# Altium integrated library ON Semi Signal Management Digital POTs.IntLib: 284 symbols (part 4 of 11)
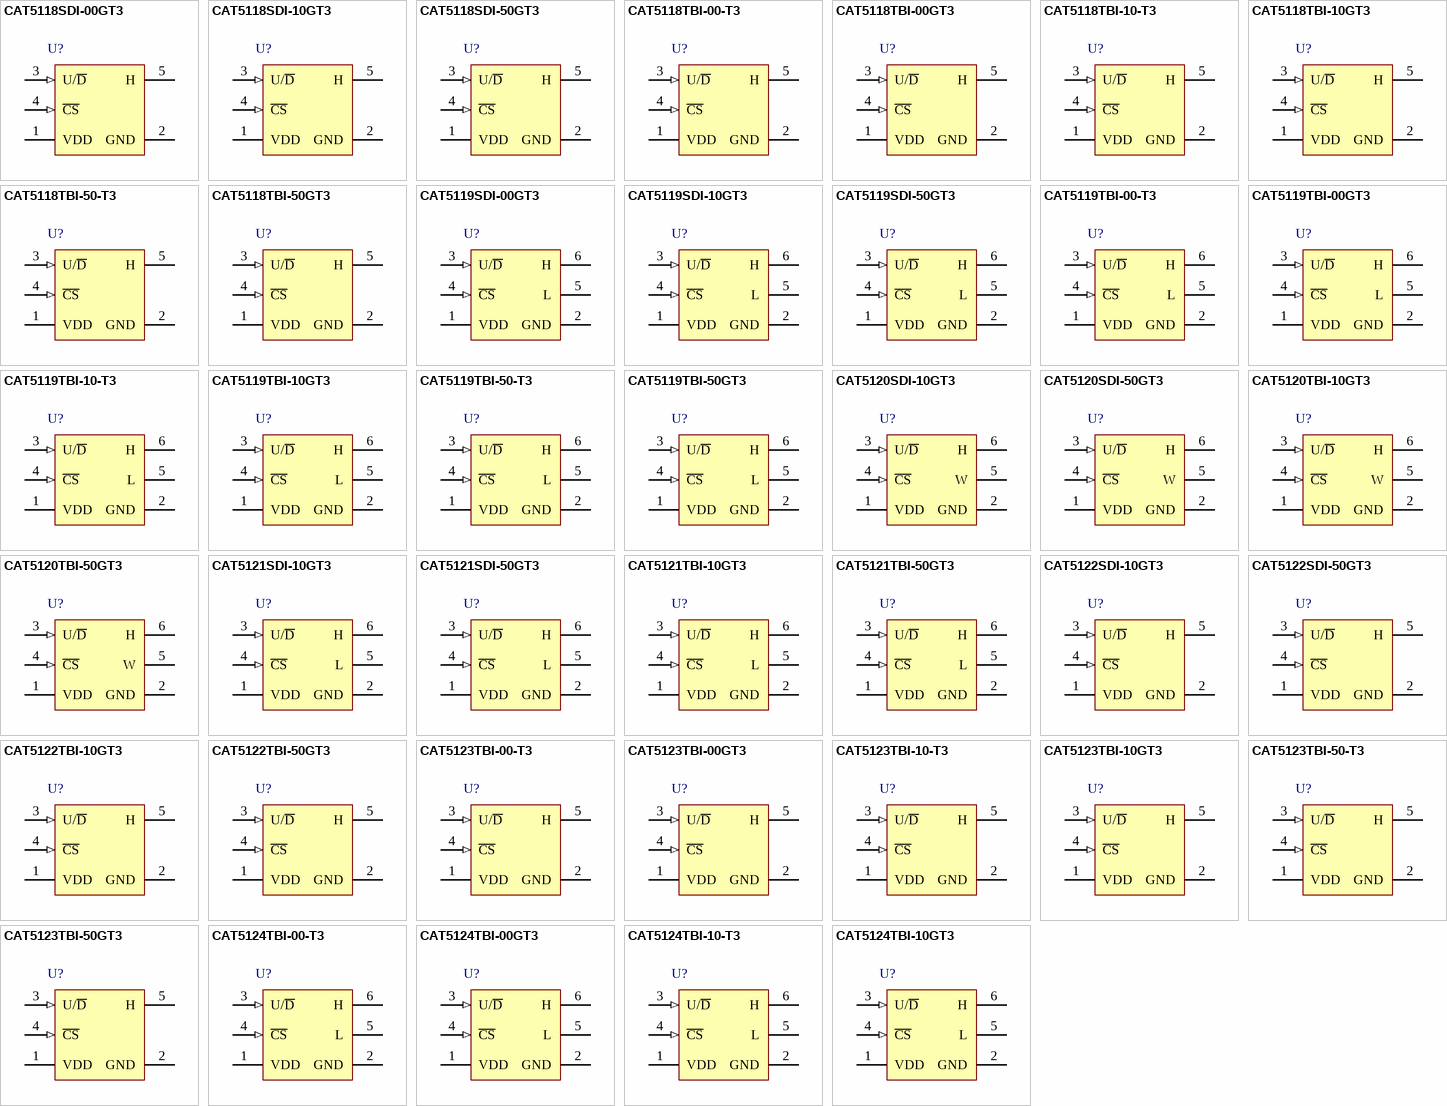
[diagram p12: symbols CAT5118SDI-00GT3 to CAT5124TBI-10GT3]

## CAT5119TBI-50GT3
designator U?
32 Tap Digital Potentiometer (POT) with 2-Wire Interface, -40 to 85 degC, 6-Pin SOT23, Pb-Free, Tape and Reel; Manufacturer: On Semiconductor; PartNumber: CAT5119TBI-50GT3; # of Pots: 1; # of Taps: 32; Control Interface: Up/Down; VDD Max (V): 5.5; DatasheetVersion: Rev. 13; PackageVersion: Rev. B, 02/2012; PackageReference: SOT23-6-527AJ; PackageDescription: 6-Pin Small Outline Transistor, Body 2.85 x 1.55 mm, Pitch 0.95 mm; Supplier 1: Digi-Key; Supplier Part Number 1: CAT5119TBI-50GT3CT-ND; Supplier 2: Digi-Key; Supplier Part Number 2: CAT5119TBI-50GT3DKR-ND; Supplier 3: Mouser; Supplier Part Number 3: 698-CAT5119TBI-50GT3; Packing: Tape and Reel; RoHS: TRUE; Type: Rheostat; Mounting Technology: Surface Mount; ComponentLink1Description: Manufacturer URL; ComponentLink1URL: http://www.onsemi.com/; ComponentLink2Description: Datasheet; ComponentLink2URL: http://www.onsemi.com/pub_link/Collateral/CAT5119-D.PDF; ComponentLink3Description: Package Specification; ComponentLink3URL: http://www.onsemi.com/pub_link/Collateral/527AJ.PDF
footprint ONSC-SOT23-6-527AJ_V (SOT23, 6-Leads, Body 3x1.8mm, Pitch 0.95mm)
pins: 1 VDD (power) "Power Supply", 2 GND (power) "Ground", 3 U/~{D} (in) "Up/D\o\w\n\ Control Input. With C\S\ low, a low-to-high transition increments or decrements the wiper position.", 4 ~{CS} (in) "Chip Select Input. A high-to-low C\S\ transition determines the mode: increment if U/D\ is high, or decrement if U/D\ is low.", 5 L "Low Terminal of Resistor", 6 H "High Terminal of Resistor"

## CAT5120SDI-10GT3
designator U?
16 Tap Digital Potentiometer (POT) with 2-Wire Interface, -40 to 85 degC, 6-Pin SC70, Pb-Free, Tape and Reel; Manufacturer: On Semiconductor; PartNumber: CAT5120SDI-10GT3; # of Pots: 1; # of Taps: 16; Control Interface: Up/Down; VDD Max (V): 5.5; DatasheetVersion: Rev. 8; PackageVersion: Rev. A, 07/2010; PackageReference: SC70-6-419AD-01; PackageDescription: 6-Pin Small Outline Transistor, Body 2 x 1.25 mm, Pitch 0.65 mm; Supplier 1: Digi-Key; Supplier Part Number 1: CAT5120SDI-10GT3-ND; Supplier 2: Mouser; Supplier Part Number 2: 863-CAT5120SDI-10GT3; Packing: Tape and Reel; RoHS: TRUE; Type: Potentiometer; Mounting Technology: Surface Mount; Code_JEDEC: MO-203; ComponentLink1Description: Manufacturer URL; ComponentLink1URL: http://www.onsemi.com/; ComponentLink2Description: Datasheet; ComponentLink2URL: http://www.onsemi.com/pub_link/Collateral/CAT5120-D.PDF; ComponentLink3Description: Package Specification; ComponentLink3URL: http://www.onsemi.com/pub_link/Collateral/419AD.PDF
footprint ONSC-SC70-6-419AD-01_N (SOT23, 6-Leads, Body 2.2x1.35mm, Pitch 0.65mm, IPC Medium Density)
footprint ONSC-SC70-6-419AD-01_L (SOT23, 6-Leads, Body 2.2x1.35mm, Pitch 0.65mm, IPC High Density)
footprint ONSC-SC70-6-419AD-01_M (SOT23, 6-Leads, Body 2.2x1.35mm, Pitch 0.65mm, IPC Low Density)
pins: 1 VDD (power) "Power Supply", 2 GND (power) "Ground", 3 U/~{D} (in) "Up/D\o\w\n\ Control Input. With C\S\ low, a low-to-high transition increments or decrements the wiper position.", 4 ~{CS} (in) "Chip Select Input. A high-to-low C\S\ transition determines the mode: increment if U/D\ is high, or decrement if U/D\ is low.", 5 W "Wiper Terminal of Resistor", 6 H "High Terminal of Resistor"

## CAT5120SDI-50GT3
designator U?
16 Tap Digital Potentiometer (POT) with 2-Wire Interface, -40 to 85 degC, 6-Pin SC70, Pb-Free, Tape and Reel; Manufacturer: On Semiconductor; PartNumber: CAT5120SDI-50GT3; # of Pots: 1; # of Taps: 16; Control Interface: Up/Down; VDD Max (V): 5.5; DatasheetVersion: Rev. 8; PackageVersion: Rev. A, 07/2010; PackageReference: SC70-6-419AD-01; PackageDescription: 6-Pin Small Outline Transistor, Body 2 x 1.25 mm, Pitch 0.65 mm; Supplier 1: Digi-Key; Supplier Part Number 1: CAT5120SDI-50GT3-ND; Supplier 2: Mouser; Supplier Part Number 2: 863-CAT5120SDI-50GT3; Packing: Tape and Reel; RoHS: TRUE; Type: Potentiometer; Mounting Technology: Surface Mount; Code_JEDEC: MO-203; ComponentLink1Description: Manufacturer URL; ComponentLink1URL: http://www.onsemi.com/; ComponentLink2Description: Datasheet; ComponentLink2URL: http://www.onsemi.com/pub_link/Collateral/CAT5120-D.PDF; ComponentLink3Description: Package Specification; ComponentLink3URL: http://www.onsemi.com/pub_link/Collateral/419AD.PDF
footprint ONSC-SC70-6-419AD-01_N (SOT23, 6-Leads, Body 2.2x1.35mm, Pitch 0.65mm, IPC Medium Density)
footprint ONSC-SC70-6-419AD-01_L (SOT23, 6-Leads, Body 2.2x1.35mm, Pitch 0.65mm, IPC High Density)
footprint ONSC-SC70-6-419AD-01_M (SOT23, 6-Leads, Body 2.2x1.35mm, Pitch 0.65mm, IPC Low Density)
pins: 1 VDD (power) "Power Supply", 2 GND (power) "Ground", 3 U/~{D} (in) "Up/D\o\w\n\ Control Input. With C\S\ low, a low-to-high transition increments or decrements the wiper position.", 4 ~{CS} (in) "Chip Select Input. A high-to-low C\S\ transition determines the mode: increment if U/D\ is high, or decrement if U/D\ is low.", 5 W "Wiper Terminal of Resistor", 6 H "High Terminal of Resistor"

## CAT5120TBI-10GT3
designator U?
16 Tap Digital Potentiometer (POT) with 2-Wire Interface, -40 to 85 degC, 6-Pin SOT23, Pb-Free, Tape and Reel; Manufacturer: On Semiconductor; PartNumber: CAT5120TBI-10GT3; # of Pots: 1; # of Taps: 16; Control Interface: Up/Down; VDD Max (V): 5.5; DatasheetVersion: Rev. 8; PackageVersion: Rev. B, 02/2012; PackageReference: SOT23-6-527AJ; PackageDescription: 6-Pin Small Outline Transistor, Body 2.85 x 1.55 mm, Pitch 0.95 mm; Supplier 1: Digi-Key; Supplier Part Number 1: CAT5120TBI-10GT3CT-ND; Supplier 2: Digi-Key; Supplier Part Number 2: CAT5120TBI-10GT3DKR-ND; Supplier 3: Mouser; Supplier Part Number 3: 863-CAT5120TBI-10GT3; Packing: Tape and Reel; RoHS: TRUE; Type: Potentiometer; Mounting Technology: Surface Mount; ComponentLink1Description: Manufacturer URL; ComponentLink1URL: http://www.onsemi.com/; ComponentLink2Description: Datasheet; ComponentLink2URL: http://www.onsemi.com/pub_link/Collateral/CAT5120-D.PDF; ComponentLink3Description: Package Specification; ComponentLink3URL: http://www.onsemi.com/pub_link/Collateral/527AJ.PDF
footprint ONSC-SOT23-6-527AJ_V (SOT23, 6-Leads, Body 3x1.8mm, Pitch 0.95mm)
pins: 1 VDD (power) "Power Supply", 2 GND (power) "Ground", 3 U/~{D} (in) "Up/D\o\w\n\ Control Input. With C\S\ low, a low-to-high transition increments or decrements the wiper position.", 4 ~{CS} (in) "Chip Select Input. A high-to-low C\S\ transition determines the mode: increment if U/D\ is high, or decrement if U/D\ is low.", 5 W "Wiper Terminal of Resistor", 6 H "High Terminal of Resistor"

## CAT5120TBI-50GT3
designator U?
16 Tap Digital Potentiometer (POT) with 2-Wire Interface, -40 to 85 degC, 6-Pin SOT23, Pb-Free, Tape and Reel; Manufacturer: On Semiconductor; PartNumber: CAT5120TBI-50GT3; # of Pots: 1; # of Taps: 16; Control Interface: Up/Down; VDD Max (V): 5.5; DatasheetVersion: Rev. 8; PackageVersion: Rev. B, 02/2012; PackageReference: SOT23-6-527AJ; PackageDescription: 6-Pin Small Outline Transistor, Body 2.85 x 1.55 mm, Pitch 0.95 mm; Supplier 1: Digi-Key; Supplier Part Number 1: CAT5120TBI-50GT3-ND; Supplier 2: Mouser; Supplier Part Number 2: 863-CAT5120TBI-50GT3; Packing: Tape and Reel; RoHS: TRUE; Type: Potentiometer; Mounting Technology: Surface Mount; ComponentLink1Description: Manufacturer URL; ComponentLink1URL: http://www.onsemi.com/; ComponentLink2Description: Datasheet; ComponentLink2URL: http://www.onsemi.com/pub_link/Collateral/CAT5120-D.PDF; ComponentLink3Description: Package Specification; ComponentLink3URL: http://www.onsemi.com/pub_link/Collateral/527AJ.PDF
footprint ONSC-SOT23-6-527AJ_V (SOT23, 6-Leads, Body 3x1.8mm, Pitch 0.95mm)
pins: 1 VDD (power) "Power Supply", 2 GND (power) "Ground", 3 U/~{D} (in) "Up/D\o\w\n\ Control Input. With C\S\ low, a low-to-high transition increments or decrements the wiper position.", 4 ~{CS} (in) "Chip Select Input. A high-to-low C\S\ transition determines the mode: increment if U/D\ is high, or decrement if U/D\ is low.", 5 W "Wiper Terminal of Resistor", 6 H "High Terminal of Resistor"

## CAT5121SDI-10GT3
designator U?
16 Tap Digital Potentiometer (POT) with 2-Wire Interface, -40 to 85 degC, 6-Pin SC70, Pb-Free, Tape and Reel; Manufacturer: On Semiconductor; PartNumber: CAT5121SDI-10GT3; # of Pots: 1; # of Taps: 16; Control Interface: Up/Down; VDD Max (V): 5.5; DatasheetVersion: Rev. 8; PackageVersion: Rev. A, 07/2010; PackageReference: SC70-6-419AD-01; PackageDescription: 6-Pin Small Outline Transistor, Body 2 x 1.25 mm, Pitch 0.65 mm; Supplier 1: Digi-Key; Supplier Part Number 1: CAT5121SDI-10GT3-ND; Supplier 2: Mouser; Supplier Part Number 2: 863-CAT5121SDI-10GT3; Packing: Tape and Reel; RoHS: TRUE; Type: Rheostat; Mounting Technology: Surface Mount; Code_JEDEC: MO-203; ComponentLink1Description: Manufacturer URL; ComponentLink1URL: http://www.onsemi.com/; ComponentLink2Description: Datasheet; ComponentLink2URL: http://www.onsemi.com/pub_link/Collateral/CAT5121-D.PDF; ComponentLink3Description: Package Specification; ComponentLink3URL: http://www.onsemi.com/pub_link/Collateral/419AD.PDF
footprint ONSC-SC70-6-419AD-01_N (SOT23, 6-Leads, Body 2.2x1.35mm, Pitch 0.65mm, IPC Medium Density)
footprint ONSC-SC70-6-419AD-01_L (SOT23, 6-Leads, Body 2.2x1.35mm, Pitch 0.65mm, IPC High Density)
footprint ONSC-SC70-6-419AD-01_M (SOT23, 6-Leads, Body 2.2x1.35mm, Pitch 0.65mm, IPC Low Density)
pins: 1 VDD (power) "Power Supply", 2 GND (power) "Ground", 3 U/~{D} (in) "Up/D\o\w\n\ Control Input. With C\S\ low, a low-to-high transition increments or decrements the wiper position.", 4 ~{CS} (in) "Chip Select Input. A high-to-low C\S\ transition determines the mode: increment if U/D\ is high, or decrement if U/D\ is low.", 5 L "Low Terminal of Resistor", 6 H "High Terminal of Resistor"

## CAT5121SDI-50GT3
designator U?
16 Tap Digital Potentiometer (POT) with 2-Wire Interface, -40 to 85 degC, 6-Pin SC70, Pb-Free, Tape and Reel; Manufacturer: On Semiconductor; PartNumber: CAT5121SDI-50GT3; # of Pots: 1; # of Taps: 16; Control Interface: Up/Down; VDD Max (V): 5.5; DatasheetVersion: Rev. 8; PackageVersion: Rev. A, 07/2010; PackageReference: SC70-6-419AD-01; PackageDescription: 6-Pin Small Outline Transistor, Body 2 x 1.25 mm, Pitch 0.65 mm; Supplier 1: Digi-Key; Supplier Part Number 1: CAT5121SDI-50GT3-ND; Supplier 2: Mouser; Supplier Part Number 2: 863-CAT5121SDI-50GT3; Packing: Tape and Reel; RoHS: TRUE; Type: Rheostat; Mounting Technology: Surface Mount; Code_JEDEC: MO-203; ComponentLink1Description: Manufacturer URL; ComponentLink1URL: http://www.onsemi.com/; ComponentLink2Description: Datasheet; ComponentLink2URL: http://www.onsemi.com/pub_link/Collateral/CAT5121-D.PDF; ComponentLink3Description: Package Specification; ComponentLink3URL: http://www.onsemi.com/pub_link/Collateral/419AD.PDF
footprint ONSC-SC70-6-419AD-01_N (SOT23, 6-Leads, Body 2.2x1.35mm, Pitch 0.65mm, IPC Medium Density)
footprint ONSC-SC70-6-419AD-01_L (SOT23, 6-Leads, Body 2.2x1.35mm, Pitch 0.65mm, IPC High Density)
footprint ONSC-SC70-6-419AD-01_M (SOT23, 6-Leads, Body 2.2x1.35mm, Pitch 0.65mm, IPC Low Density)
pins: 1 VDD (power) "Power Supply", 2 GND (power) "Ground", 3 U/~{D} (in) "Up/D\o\w\n\ Control Input. With C\S\ low, a low-to-high transition increments or decrements the wiper position.", 4 ~{CS} (in) "Chip Select Input. A high-to-low C\S\ transition determines the mode: increment if U/D\ is high, or decrement if U/D\ is low.", 5 L "Low Terminal of Resistor", 6 H "High Terminal of Resistor"

## CAT5121TBI-10GT3
designator U?
16 Tap Digital Potentiometer (POT) with 2-Wire Interface, -40 to 85 degC, 6-Pin SOT23, Pb-Free, Tape and Reel; Manufacturer: On Semiconductor; PartNumber: CAT5121TBI-10GT3; # of Pots: 1; # of Taps: 16; Control Interface: Up/Down; VDD Max (V): 5.5; DatasheetVersion: Rev. 8; PackageVersion: Rev. B, 02/2012; PackageReference: SOT23-6-527AJ; PackageDescription: 6-Pin Small Outline Transistor, Body 2.85 x 1.55 mm, Pitch 0.95 mm; Supplier 1: Digi-Key; Supplier Part Number 1: CAT5121TBI-10GT3CT-ND; Supplier 2: Digi-Key; Supplier Part Number 2: CAT5121TBI-10GT3DKR-ND; Supplier 3: Mouser; Supplier Part Number 3: 863-CAT5121TBI-10GT3; Packing: Tape and Reel; RoHS: TRUE; Type: Rheostat; Mounting Technology: Surface Mount; ComponentLink1Description: Manufacturer URL; ComponentLink1URL: http://www.onsemi.com/; ComponentLink2Description: Datasheet; ComponentLink2URL: http://www.onsemi.com/pub_link/Collateral/CAT5121-D.PDF; ComponentLink3Description: Package Specification; ComponentLink3URL: http://www.onsemi.com/pub_link/Collateral/527AJ.PDF
footprint ONSC-SOT23-6-527AJ_V (SOT23, 6-Leads, Body 3x1.8mm, Pitch 0.95mm)
pins: 1 VDD (power) "Power Supply", 2 GND (power) "Ground", 3 U/~{D} (in) "Up/D\o\w\n\ Control Input. With C\S\ low, a low-to-high transition increments or decrements the wiper position.", 4 ~{CS} (in) "Chip Select Input. A high-to-low C\S\ transition determines the mode: increment if U/D\ is high, or decrement if U/D\ is low.", 5 L "Low Terminal of Resistor", 6 H "High Terminal of Resistor"

## CAT5121TBI-50GT3
designator U?
16 Tap Digital Potentiometer (POT) with 2-Wire Interface, -40 to 85 degC, 6-Pin SOT23, Pb-Free, Tape and Reel; Manufacturer: On Semiconductor; PartNumber: CAT5121TBI-50GT3; # of Pots: 1; # of Taps: 16; Control Interface: Up/Down; VDD Max (V): 5.5; DatasheetVersion: Rev. 8; PackageVersion: Rev. B, 02/2012; PackageReference: SOT23-6-527AJ; PackageDescription: 6-Pin Small Outline Transistor, Body 2.85 x 1.55 mm, Pitch 0.95 mm; Supplier 1: Digi-Key; Supplier Part Number 1: CAT5121TBI-50GT3-ND; Supplier 2: Mouser; Supplier Part Number 2: 863-CAT5121TBI-50GT3; Packing: Tape and Reel; RoHS: TRUE; Type: Rheostat; Mounting Technology: Surface Mount; ComponentLink1Description: Manufacturer URL; ComponentLink1URL: http://www.onsemi.com/; ComponentLink2Description: Datasheet; ComponentLink2URL: http://www.onsemi.com/pub_link/Collateral/CAT5121-D.PDF; ComponentLink3Description: Package Specification; ComponentLink3URL: http://www.onsemi.com/pub_link/Collateral/527AJ.PDF
footprint ONSC-SOT23-6-527AJ_V (SOT23, 6-Leads, Body 3x1.8mm, Pitch 0.95mm)
pins: 1 VDD (power) "Power Supply", 2 GND (power) "Ground", 3 U/~{D} (in) "Up/D\o\w\n\ Control Input. With C\S\ low, a low-to-high transition increments or decrements the wiper position.", 4 ~{CS} (in) "Chip Select Input. A high-to-low C\S\ transition determines the mode: increment if U/D\ is high, or decrement if U/D\ is low.", 5 L "Low Terminal of Resistor", 6 H "High Terminal of Resistor"

## CAT5122SDI-10GT3
designator U?
16 Tap Digital Potentiometer (POT) with 2-Wire Interface, -40 to 85 degC, 5-Pin SC70, Pb-Free, Tape and Reel; Manufacturer: On Semiconductor; PartNumber: CAT5122SDI-10GT3; # of Pots: 1; # of Taps: 16; Control Interface: Up/Down; VDD Max (V): 5.5; DatasheetVersion: Rev. 8; PackageVersion: Rev. A, 06/2010; PackageReference: SC70-5-419AC-01; PackageDescription: 5-Pin Small Outline Transistor, Body 2 x 1.25 mm, Pitch 0.65 mm; Supplier 1: Digi-Key; Supplier Part Number 1: CAT5122SDI-10GT3-ND; Supplier 2: Mouser; Supplier Part Number 2: 863-CAT5122SDI-10GT3; Packing: Tape and Reel; RoHS: TRUE; Type: Rheostat; Mounting Technology: Surface Mount; Code_JEDEC: MO-203; ComponentLink1Description: Manufacturer URL; ComponentLink1URL: http://www.onsemi.com/; ComponentLink2Description: Datasheet; ComponentLink2URL: http://www.onsemi.com/pub_link/Collateral/CAT5122-D.PDF; ComponentLink3Description: Package Specification; ComponentLink3URL: http://www.onsemi.com/pub_link/Collateral/419AC.PDF
footprint ONSC-SC70-5-419AC-01_N (SOT23, 5-Leads, Body 2.2x1.35mm, Pitch 0.65mm, IPC Medium Density)
footprint ONSC-SC70-5-419AC-01_L (SOT23, 5-Leads, Body 2.2x1.35mm, Pitch 0.65mm, IPC High Density)
footprint ONSC-SC70-5-419AC-01_M (SOT23, 5-Leads, Body 2.2x1.35mm, Pitch 0.65mm, IPC Low Density)
pins: 1 VDD (power) "Power Supply", 2 GND (power) "Ground", 3 U/~{D} (in) "Up/D\o\w\n\ Control Input. With C\S\ low, a low-to-high transition increments or decrements the wiper position.", 4 ~{CS} (in) "Chip Select Input. A high-to-low C\S\ transition determines the mode: increment if U/D\ is high, or decrement if U/D\ is low.", 5 H "High Terminal of Resistor"

## CAT5122SDI-50GT3
designator U?
16 Tap Digital Potentiometer (POT) with 2-Wire Interface, -40 to 85 degC, 5-Pin SC70, Pb-Free, Tape and Reel; Manufacturer: On Semiconductor; PartNumber: CAT5122SDI-50GT3; # of Pots: 1; # of Taps: 16; Control Interface: Up/Down; VDD Max (V): 5.5; DatasheetVersion: Rev. 8; PackageVersion: Rev. A, 06/2010; PackageReference: SC70-5-419AC-01; PackageDescription: 5-Pin Small Outline Transistor, Body 2 x 1.25 mm, Pitch 0.65 mm; Supplier 1: Digi-Key; Supplier Part Number 1: CAT5122SDI-50GT3-ND; Supplier 2: Mouser; Supplier Part Number 2: 863-CAT5122SDI-50GT3; Packing: Tape and Reel; RoHS: TRUE; Type: Rheostat; Mounting Technology: Surface Mount; Code_JEDEC: MO-203; ComponentLink1Description: Manufacturer URL; ComponentLink1URL: http://www.onsemi.com/; ComponentLink2Description: Datasheet; ComponentLink2URL: http://www.onsemi.com/pub_link/Collateral/CAT5122-D.PDF; ComponentLink3Description: Package Specification; ComponentLink3URL: http://www.onsemi.com/pub_link/Collateral/419AC.PDF
footprint ONSC-SC70-5-419AC-01_N (SOT23, 5-Leads, Body 2.2x1.35mm, Pitch 0.65mm, IPC Medium Density)
footprint ONSC-SC70-5-419AC-01_L (SOT23, 5-Leads, Body 2.2x1.35mm, Pitch 0.65mm, IPC High Density)
footprint ONSC-SC70-5-419AC-01_M (SOT23, 5-Leads, Body 2.2x1.35mm, Pitch 0.65mm, IPC Low Density)
pins: 1 VDD (power) "Power Supply", 2 GND (power) "Ground", 3 U/~{D} (in) "Up/D\o\w\n\ Control Input. With C\S\ low, a low-to-high transition increments or decrements the wiper position.", 4 ~{CS} (in) "Chip Select Input. A high-to-low C\S\ transition determines the mode: increment if U/D\ is high, or decrement if U/D\ is low.", 5 H "High Terminal of Resistor"

## CAT5122TBI-10GT3
designator U?
16 Tap Digital Potentiometer (POT) with 2-Wire Interface, -40 to 85 degC, 5-Pin SOT23, Pb-Free, Tape and Reel; Manufacturer: On Semiconductor; PartNumber: CAT5122TBI-10GT3; # of Pots: 1; # of Taps: 16; Control Interface: Up/Down; VDD Max (V): 5.5; DatasheetVersion: Rev. 8; PackageVersion: Rev. O, 12/2008; PackageReference: SOT23-5-527AH-01; PackageDescription: 5-Pin Small Outline Transistor, Body 2.9 x 1.6 mm, Pitch 0.95 mm; Supplier 1: Digi-Key; Supplier Part Number 1: CAT5122TBI-10GT3CT-ND; Supplier 2: Digi-Key; Supplier Part Number 2: CAT5122TBI-10GT3DKR-ND; Supplier 3: Mouser; Supplier Part Number 3: 863-CAT5122TBI-10GT3; Packing: Tape and Reel; RoHS: TRUE; Type: Rheostat; Mounting Technology: Surface Mount; Code_JEDEC: MO-178; ComponentLink1Description: Manufacturer URL; ComponentLink1URL: http://www.onsemi.com/; ComponentLink2Description: Datasheet; ComponentLink2URL: http://www.onsemi.com/pub_link/Collateral/CAT5122-D.PDF; ComponentLink3Description: Package Specification; ComponentLink3URL: http://www.onsemi.com/pub_link/Collateral/527AH.PDF
footprint ONSC-SOT23-5-527AH-01_N (SOT23, 5-Leads, Body 2.9x1.6mm, Pitch 0.95mm, IPC Medium Density)
footprint ONSC-SOT23-5-527AH-01_L (SOT23, 5-Leads, Body 2.9x1.6mm, Pitch 0.95mm, IPC High Density)
footprint ONSC-SOT23-5-527AH-01_M (SOT23, 5-Leads, Body 2.9x1.6mm, Pitch 0.95mm, IPC Low Density)
pins: 1 VDD (power) "Power Supply", 2 GND (power) "Ground", 3 U/~{D} (in) "Up/D\o\w\n\ Control Input. With C\S\ low, a low-to-high transition increments or decrements the wiper position.", 4 ~{CS} (in) "Chip Select Input. A high-to-low C\S\ transition determines the mode: increment if U/D\ is high, or decrement if U/D\ is low.", 5 H "High Terminal of Resistor"

## CAT5122TBI-50GT3
designator U?
16 Tap Digital Potentiometer (POT) with 2-Wire Interface, -40 to 85 degC, 5-Pin SOT23, Pb-Free, Tape and Reel; Manufacturer: On Semiconductor; PartNumber: CAT5122TBI-50GT3; # of Pots: 1; # of Taps: 16; Control Interface: Up/Down; VDD Max (V): 5.5; DatasheetVersion: Rev. 8; PackageVersion: Rev. O, 12/2008; PackageReference: SOT23-5-527AH-01; PackageDescription: 5-Pin Small Outline Transistor, Body 2.9 x 1.6 mm, Pitch 0.95 mm; Supplier 1: Digi-Key; Supplier Part Number 1: CAT5122TBI-50GT3-ND; Supplier 2: Mouser; Supplier Part Number 2: 863-CAT5122TBI-50GT3; Packing: Tape and Reel; RoHS: TRUE; Type: Rheostat; Mounting Technology: Surface Mount; Code_JEDEC: MO-178; ComponentLink1Description: Manufacturer URL; ComponentLink1URL: http://www.onsemi.com/; ComponentLink2Description: Datasheet; ComponentLink2URL: http://www.onsemi.com/pub_link/Collateral/CAT5122-D.PDF; ComponentLink3Description: Package Specification; ComponentLink3URL: http://www.onsemi.com/pub_link/Collateral/527AH.PDF
footprint ONSC-SOT23-5-527AH-01_N (SOT23, 5-Leads, Body 2.9x1.6mm, Pitch 0.95mm, IPC Medium Density)
footprint ONSC-SOT23-5-527AH-01_L (SOT23, 5-Leads, Body 2.9x1.6mm, Pitch 0.95mm, IPC High Density)
footprint ONSC-SOT23-5-527AH-01_M (SOT23, 5-Leads, Body 2.9x1.6mm, Pitch 0.95mm, IPC Low Density)
pins: 1 VDD (power) "Power Supply", 2 GND (power) "Ground", 3 U/~{D} (in) "Up/D\o\w\n\ Control Input. With C\S\ low, a low-to-high transition increments or decrements the wiper position.", 4 ~{CS} (in) "Chip Select Input. A high-to-low C\S\ transition determines the mode: increment if U/D\ is high, or decrement if U/D\ is low.", 5 H "High Terminal of Resistor"

## CAT5123TBI-00-T3
designator U?
32 Tap Digital Potentiometer (POT) with 2-Wire Interface, -40 to 85 degC, 5-Pin SOT23, Pb-Free, Tape and Reel; Manufacturer: On Semiconductor; PartNumber: CAT5123TBI-00-T3; # of Pots: 1; # of Taps: 32; Control Interface: Up/Down; VDD Max (V): 5.5; DatasheetVersion: Rev. 13; PackageVersion: Rev. O, 12/2008; PackageReference: SOT23-5-527AH-01; PackageDescription: 5-Pin Small Outline Transistor, Body 2.9 x 1.6 mm, Pitch 0.95 mm; Packing: Tape and Reel; RoHS: TRUE; Type: Rheostat; Mounting Technology: Surface Mount; Code_JEDEC: MO-178; ComponentLink1Description: Manufacturer URL; ComponentLink1URL: http://www.onsemi.com/; ComponentLink2Description: Datasheet; ComponentLink2URL: http://www.onsemi.com/pub_link/Collateral/CAT5123-D.PDF; ComponentLink3Description: Package Specification; ComponentLink3URL: http://www.onsemi.com/pub_link/Collateral/527AH.PDF
footprint ONSC-SOT23-5-527AH-01_N (SOT23, 5-Leads, Body 2.9x1.6mm, Pitch 0.95mm, IPC Medium Density)
footprint ONSC-SOT23-5-527AH-01_L (SOT23, 5-Leads, Body 2.9x1.6mm, Pitch 0.95mm, IPC High Density)
footprint ONSC-SOT23-5-527AH-01_M (SOT23, 5-Leads, Body 2.9x1.6mm, Pitch 0.95mm, IPC Low Density)
pins: 1 VDD (power) "Power Supply", 2 GND (power) "Ground", 3 U/~{D} (in) "Up/D\o\w\n\ Control Input. With C\S\ low, a low-to-high transition increments or decrements the wiper position.", 4 ~{CS} (in) "Chip Select Input. A high-to-low C\S\ transition determines the mode: increment if U/D\ is high, or decrement if U/D\ is low.", 5 H "High Terminal of Resistor"

## CAT5123TBI-00GT3
designator U?
32 Tap Digital Potentiometer (POT) with 2-Wire Interface, -40 to 85 degC, 5-Pin SOT23, Pb-Free, Tape and Reel; Manufacturer: On Semiconductor; PartNumber: CAT5123TBI-00GT3; # of Pots: 1; # of Taps: 32; Control Interface: Up/Down; VDD Max (V): 5.5; DatasheetVersion: Rev. 13; PackageVersion: Rev. O, 12/2008; PackageReference: SOT23-5-527AH-01; PackageDescription: 5-Pin Small Outline Transistor, Body 2.9 x 1.6 mm, Pitch 0.95 mm; Packing: Tape and Reel; RoHS: TRUE; Type: Rheostat; Mounting Technology: Surface Mount; Code_JEDEC: MO-178; ComponentLink1Description: Manufacturer URL; ComponentLink1URL: http://www.onsemi.com/; ComponentLink2Description: Datasheet; ComponentLink2URL: http://www.onsemi.com/pub_link/Collateral/CAT5123-D.PDF; ComponentLink3Description: Package Specification; ComponentLink3URL: http://www.onsemi.com/pub_link/Collateral/527AH.PDF
footprint ONSC-SOT23-5-527AH-01_N (SOT23, 5-Leads, Body 2.9x1.6mm, Pitch 0.95mm, IPC Medium Density)
footprint ONSC-SOT23-5-527AH-01_L (SOT23, 5-Leads, Body 2.9x1.6mm, Pitch 0.95mm, IPC High Density)
footprint ONSC-SOT23-5-527AH-01_M (SOT23, 5-Leads, Body 2.9x1.6mm, Pitch 0.95mm, IPC Low Density)
pins: 1 VDD (power) "Power Supply", 2 GND (power) "Ground", 3 U/~{D} (in) "Up/D\o\w\n\ Control Input. With C\S\ low, a low-to-high transition increments or decrements the wiper position.", 4 ~{CS} (in) "Chip Select Input. A high-to-low C\S\ transition determines the mode: increment if U/D\ is high, or decrement if U/D\ is low.", 5 H "High Terminal of Resistor"

## CAT5123TBI-10-T3
designator U?
32 Tap Digital Potentiometer (POT) with 2-Wire Interface, -40 to 85 degC, 5-Pin SOT23, Pb-Free, Tape and Reel; Manufacturer: On Semiconductor; PartNumber: CAT5123TBI-10-T3; # of Pots: 1; # of Taps: 32; Control Interface: Up/Down; VDD Max (V): 5.5; DatasheetVersion: Rev. 13; PackageVersion: Rev. O, 12/2008; PackageReference: SOT23-5-527AH-01; PackageDescription: 5-Pin Small Outline Transistor, Body 2.9 x 1.6 mm, Pitch 0.95 mm; Supplier 1: Mouser; Supplier Part Number 1: 698-CAT5123TBI-10-T3; Packing: Tape and Reel; RoHS: TRUE; Type: Rheostat; Mounting Technology: Surface Mount; Code_JEDEC: MO-178; ComponentLink1Description: Manufacturer URL; ComponentLink1URL: http://www.onsemi.com/; ComponentLink2Description: Datasheet; ComponentLink2URL: http://www.onsemi.com/pub_link/Collateral/CAT5123-D.PDF; ComponentLink3Description: Package Specification; ComponentLink3URL: http://www.onsemi.com/pub_link/Collateral/527AH.PDF
footprint ONSC-SOT23-5-527AH-01_N (SOT23, 5-Leads, Body 2.9x1.6mm, Pitch 0.95mm, IPC Medium Density)
footprint ONSC-SOT23-5-527AH-01_L (SOT23, 5-Leads, Body 2.9x1.6mm, Pitch 0.95mm, IPC High Density)
footprint ONSC-SOT23-5-527AH-01_M (SOT23, 5-Leads, Body 2.9x1.6mm, Pitch 0.95mm, IPC Low Density)
pins: 1 VDD (power) "Power Supply", 2 GND (power) "Ground", 3 U/~{D} (in) "Up/D\o\w\n\ Control Input. With C\S\ low, a low-to-high transition increments or decrements the wiper position.", 4 ~{CS} (in) "Chip Select Input. A high-to-low C\S\ transition determines the mode: increment if U/D\ is high, or decrement if U/D\ is low.", 5 H "High Terminal of Resistor"

## CAT5123TBI-10GT3
designator U?
32 Tap Digital Potentiometer (POT) with 2-Wire Interface, -40 to 85 degC, 5-Pin SOT23, Pb-Free, Tape and Reel; Manufacturer: On Semiconductor; PartNumber: CAT5123TBI-10GT3; # of Pots: 1; # of Taps: 32; Control Interface: Up/Down; VDD Max (V): 5.5; DatasheetVersion: Rev. 13; PackageVersion: Rev. O, 12/2008; PackageReference: SOT23-5-527AH-01; PackageDescription: 5-Pin Small Outline Transistor, Body 2.9 x 1.6 mm, Pitch 0.95 mm; Supplier 1: Mouser; Supplier Part Number 1: 863-CAT5123TBI-10GT3; Packing: Tape and Reel; RoHS: TRUE; Type: Rheostat; Mounting Technology: Surface Mount; Code_JEDEC: MO-178; ComponentLink1Description: Manufacturer URL; ComponentLink1URL: http://www.onsemi.com/; ComponentLink2Description: Datasheet; ComponentLink2URL: http://www.onsemi.com/pub_link/Collateral/CAT5123-D.PDF; ComponentLink3Description: Package Specification; ComponentLink3URL: http://www.onsemi.com/pub_link/Collateral/527AH.PDF
footprint ONSC-SOT23-5-527AH-01_N (SOT23, 5-Leads, Body 2.9x1.6mm, Pitch 0.95mm, IPC Medium Density)
footprint ONSC-SOT23-5-527AH-01_L (SOT23, 5-Leads, Body 2.9x1.6mm, Pitch 0.95mm, IPC High Density)
footprint ONSC-SOT23-5-527AH-01_M (SOT23, 5-Leads, Body 2.9x1.6mm, Pitch 0.95mm, IPC Low Density)
pins: 1 VDD (power) "Power Supply", 2 GND (power) "Ground", 3 U/~{D} (in) "Up/D\o\w\n\ Control Input. With C\S\ low, a low-to-high transition increments or decrements the wiper position.", 4 ~{CS} (in) "Chip Select Input. A high-to-low C\S\ transition determines the mode: increment if U/D\ is high, or decrement if U/D\ is low.", 5 H "High Terminal of Resistor"

## CAT5123TBI-50-T3
designator U?
32 Tap Digital Potentiometer (POT) with 2-Wire Interface, -40 to 85 degC, 5-Pin SOT23, Pb-Free, Tape and Reel; Manufacturer: On Semiconductor; PartNumber: CAT5123TBI-50-T3; # of Pots: 1; # of Taps: 32; Control Interface: Up/Down; VDD Max (V): 5.5; DatasheetVersion: Rev. 13; PackageVersion: Rev. O, 12/2008; PackageReference: SOT23-5-527AH-01; PackageDescription: 5-Pin Small Outline Transistor, Body 2.9 x 1.6 mm, Pitch 0.95 mm; Packing: Tape and Reel; RoHS: TRUE; Type: Rheostat; Mounting Technology: Surface Mount; Code_JEDEC: MO-178; ComponentLink1Description: Manufacturer URL; ComponentLink1URL: http://www.onsemi.com/; ComponentLink2Description: Datasheet; ComponentLink2URL: http://www.onsemi.com/pub_link/Collateral/CAT5123-D.PDF; ComponentLink3Description: Package Specification; ComponentLink3URL: http://www.onsemi.com/pub_link/Collateral/527AH.PDF
footprint ONSC-SOT23-5-527AH-01_N (SOT23, 5-Leads, Body 2.9x1.6mm, Pitch 0.95mm, IPC Medium Density)
footprint ONSC-SOT23-5-527AH-01_L (SOT23, 5-Leads, Body 2.9x1.6mm, Pitch 0.95mm, IPC High Density)
footprint ONSC-SOT23-5-527AH-01_M (SOT23, 5-Leads, Body 2.9x1.6mm, Pitch 0.95mm, IPC Low Density)
pins: 1 VDD (power) "Power Supply", 2 GND (power) "Ground", 3 U/~{D} (in) "Up/D\o\w\n\ Control Input. With C\S\ low, a low-to-high transition increments or decrements the wiper position.", 4 ~{CS} (in) "Chip Select Input. A high-to-low C\S\ transition determines the mode: increment if U/D\ is high, or decrement if U/D\ is low.", 5 H "High Terminal of Resistor"

## CAT5123TBI-50GT3
designator U?
32 Tap Digital Potentiometer (POT) with 2-Wire Interface, -40 to 85 degC, 5-Pin SOT23, Pb-Free, Tape and Reel; Manufacturer: On Semiconductor; PartNumber: CAT5123TBI-50GT3; # of Pots: 1; # of Taps: 32; Control Interface: Up/Down; VDD Max (V): 5.5; DatasheetVersion: Rev. 13; PackageVersion: Rev. O, 12/2008; PackageReference: SOT23-5-527AH-01; PackageDescription: 5-Pin Small Outline Transistor, Body 2.9 x 1.6 mm, Pitch 0.95 mm; Packing: Tape and Reel; RoHS: TRUE; Type: Rheostat; Mounting Technology: Surface Mount; Code_JEDEC: MO-178; ComponentLink1Description: Manufacturer URL; ComponentLink1URL: http://www.onsemi.com/; ComponentLink2Description: Datasheet; ComponentLink2URL: http://www.onsemi.com/pub_link/Collateral/CAT5123-D.PDF; ComponentLink3Description: Package Specification; ComponentLink3URL: http://www.onsemi.com/pub_link/Collateral/527AH.PDF
footprint ONSC-SOT23-5-527AH-01_N (SOT23, 5-Leads, Body 2.9x1.6mm, Pitch 0.95mm, IPC Medium Density)
footprint ONSC-SOT23-5-527AH-01_L (SOT23, 5-Leads, Body 2.9x1.6mm, Pitch 0.95mm, IPC High Density)
footprint ONSC-SOT23-5-527AH-01_M (SOT23, 5-Leads, Body 2.9x1.6mm, Pitch 0.95mm, IPC Low Density)
pins: 1 VDD (power) "Power Supply", 2 GND (power) "Ground", 3 U/~{D} (in) "Up/D\o\w\n\ Control Input. With C\S\ low, a low-to-high transition increments or decrements the wiper position.", 4 ~{CS} (in) "Chip Select Input. A high-to-low C\S\ transition determines the mode: increment if U/D\ is high, or decrement if U/D\ is low.", 5 H "High Terminal of Resistor"

## CAT5124TBI-00-T3
designator U?
32 Tap Digital Potentiometer (POT) with 2-Wire Interface, -40 to 85 degC, 6-Pin SOT23, Pb-Free, Tape and Reel; Manufacturer: On Semiconductor; PartNumber: CAT5124TBI-00-T3; # of Pots: 1; # of Taps: 32; Control Interface: Up/Down; VDD Max (V): 5.5; DatasheetVersion: Rev. 13; PackageVersion: Rev. B, 02/2012; PackageReference: SOT23-6-527AJ; PackageDescription: 6-Pin Small Outline Transistor, Body 2.85 x 1.55 mm, Pitch 0.95 mm; Packing: Tape and Reel; RoHS: TRUE; Type: Rheostat; Mounting Technology: Surface Mount; ComponentLink1Description: Manufacturer URL; ComponentLink1URL: http://www.onsemi.com/; ComponentLink2Description: Datasheet; ComponentLink2URL: http://www.onsemi.com/pub_link/Collateral/CAT5124-D.PDF; ComponentLink3Description: Package Specification; ComponentLink3URL: http://www.onsemi.com/pub_link/Collateral/527AJ.PDF
footprint ONSC-SOT23-6-527AJ_V (SOT23, 6-Leads, Body 3x1.8mm, Pitch 0.95mm)
pins: 1 VDD (power) "Power Supply", 2 GND (power) "Ground", 3 U/~{D} (in) "Up/D\o\w\n\ Control Input. With C\S\ low, a low-to-high transition increments or decrements the wiper position.", 4 ~{CS} (in) "Chip Select Input. A high-to-low C\S\ transition determines the mode: increment if U/D\ is high, or decrement if U/D\ is low.", 5 L "Low Terminal of Resistor", 6 H "High Terminal of Resistor"

## CAT5124TBI-00GT3
designator U?
32 Tap Digital Potentiometer (POT) with 2-Wire Interface, -40 to 85 degC, 6-Pin SOT23, Pb-Free, Tape and Reel; Manufacturer: On Semiconductor; PartNumber: CAT5124TBI-00GT3; # of Pots: 1; # of Taps: 32; Control Interface: Up/Down; VDD Max (V): 5.5; DatasheetVersion: Rev. 13; PackageVersion: Rev. B, 02/2012; PackageReference: SOT23-6-527AJ; PackageDescription: 6-Pin Small Outline Transistor, Body 2.85 x 1.55 mm, Pitch 0.95 mm; Supplier 1: Digi-Key; Supplier Part Number 1: CAT5124TBI-00GT3-ND; Supplier 2: Mouser; Supplier Part Number 2: 863-CAT5124TBI-00GT3; Packing: Tape and Reel; RoHS: TRUE; Type: Rheostat; Mounting Technology: Surface Mount; ComponentLink1Description: Manufacturer URL; ComponentLink1URL: http://www.onsemi.com/; ComponentLink2Description: Datasheet; ComponentLink2URL: http://www.onsemi.com/pub_link/Collateral/CAT5124-D.PDF; ComponentLink3Description: Package Specification; ComponentLink3URL: http://www.onsemi.com/pub_link/Collateral/527AJ.PDF
footprint ONSC-SOT23-6-527AJ_V (SOT23, 6-Leads, Body 3x1.8mm, Pitch 0.95mm)
pins: 1 VDD (power) "Power Supply", 2 GND (power) "Ground", 3 U/~{D} (in) "Up/D\o\w\n\ Control Input. With C\S\ low, a low-to-high transition increments or decrements the wiper position.", 4 ~{CS} (in) "Chip Select Input. A high-to-low C\S\ transition determines the mode: increment if U/D\ is high, or decrement if U/D\ is low.", 5 L "Low Terminal of Resistor", 6 H "High Terminal of Resistor"

## CAT5124TBI-10-T3
designator U?
32 Tap Digital Potentiometer (POT) with 2-Wire Interface, -40 to 85 degC, 6-Pin SOT23, Pb-Free, Tape and Reel; Manufacturer: On Semiconductor; PartNumber: CAT5124TBI-10-T3; # of Pots: 1; # of Taps: 32; Control Interface: Up/Down; VDD Max (V): 5.5; DatasheetVersion: Rev. 13; PackageVersion: Rev. B, 02/2012; PackageReference: SOT23-6-527AJ; PackageDescription: 6-Pin Small Outline Transistor, Body 2.85 x 1.55 mm, Pitch 0.95 mm; Packing: Tape and Reel; RoHS: TRUE; Type: Rheostat; Mounting Technology: Surface Mount; ComponentLink1Description: Manufacturer URL; ComponentLink1URL: http://www.onsemi.com/; ComponentLink2Description: Datasheet; ComponentLink2URL: http://www.onsemi.com/pub_link/Collateral/CAT5124-D.PDF; ComponentLink3Description: Package Specification; ComponentLink3URL: http://www.onsemi.com/pub_link/Collateral/527AJ.PDF
footprint ONSC-SOT23-6-527AJ_V (SOT23, 6-Leads, Body 3x1.8mm, Pitch 0.95mm)
pins: 1 VDD (power) "Power Supply", 2 GND (power) "Ground", 3 U/~{D} (in) "Up/D\o\w\n\ Control Input. With C\S\ low, a low-to-high transition increments or decrements the wiper position.", 4 ~{CS} (in) "Chip Select Input. A high-to-low C\S\ transition determines the mode: increment if U/D\ is high, or decrement if U/D\ is low.", 5 L "Low Terminal of Resistor", 6 H "High Terminal of Resistor"

## CAT5124TBI-10GT3
designator U?
32 Tap Digital Potentiometer (POT) with 2-Wire Interface, -40 to 85 degC, 6-Pin SOT23, Pb-Free, Tape and Reel; Manufacturer: On Semiconductor; PartNumber: CAT5124TBI-10GT3; # of Pots: 1; # of Taps: 32; Control Interface: Up/Down; VDD Max (V): 5.5; DatasheetVersion: Rev. 13; PackageVersion: Rev. B, 02/2012; PackageReference: SOT23-6-527AJ; PackageDescription: 6-Pin Small Outline Transistor, Body 2.85 x 1.55 mm, Pitch 0.95 mm; Packing: Tape and Reel; RoHS: TRUE; Type: Rheostat; Mounting Technology: Surface Mount; ComponentLink1Description: Manufacturer URL; ComponentLink1URL: http://www.onsemi.com/; ComponentLink2Description: Datasheet; ComponentLink2URL: http://www.onsemi.com/pub_link/Collateral/CAT5124-D.PDF; ComponentLink3Description: Package Specification; ComponentLink3URL: http://www.onsemi.com/pub_link/Collateral/527AJ.PDF
footprint ONSC-SOT23-6-527AJ_V (SOT23, 6-Leads, Body 3x1.8mm, Pitch 0.95mm)
pins: 1 VDD (power) "Power Supply", 2 GND (power) "Ground", 3 U/~{D} (in) "Up/D\o\w\n\ Control Input. With C\S\ low, a low-to-high transition increments or decrements the wiper position.", 4 ~{CS} (in) "Chip Select Input. A high-to-low C\S\ transition determines the mode: increment if U/D\ is high, or decrement if U/D\ is low.", 5 L "Low Terminal of Resistor", 6 H "High Terminal of Resistor"

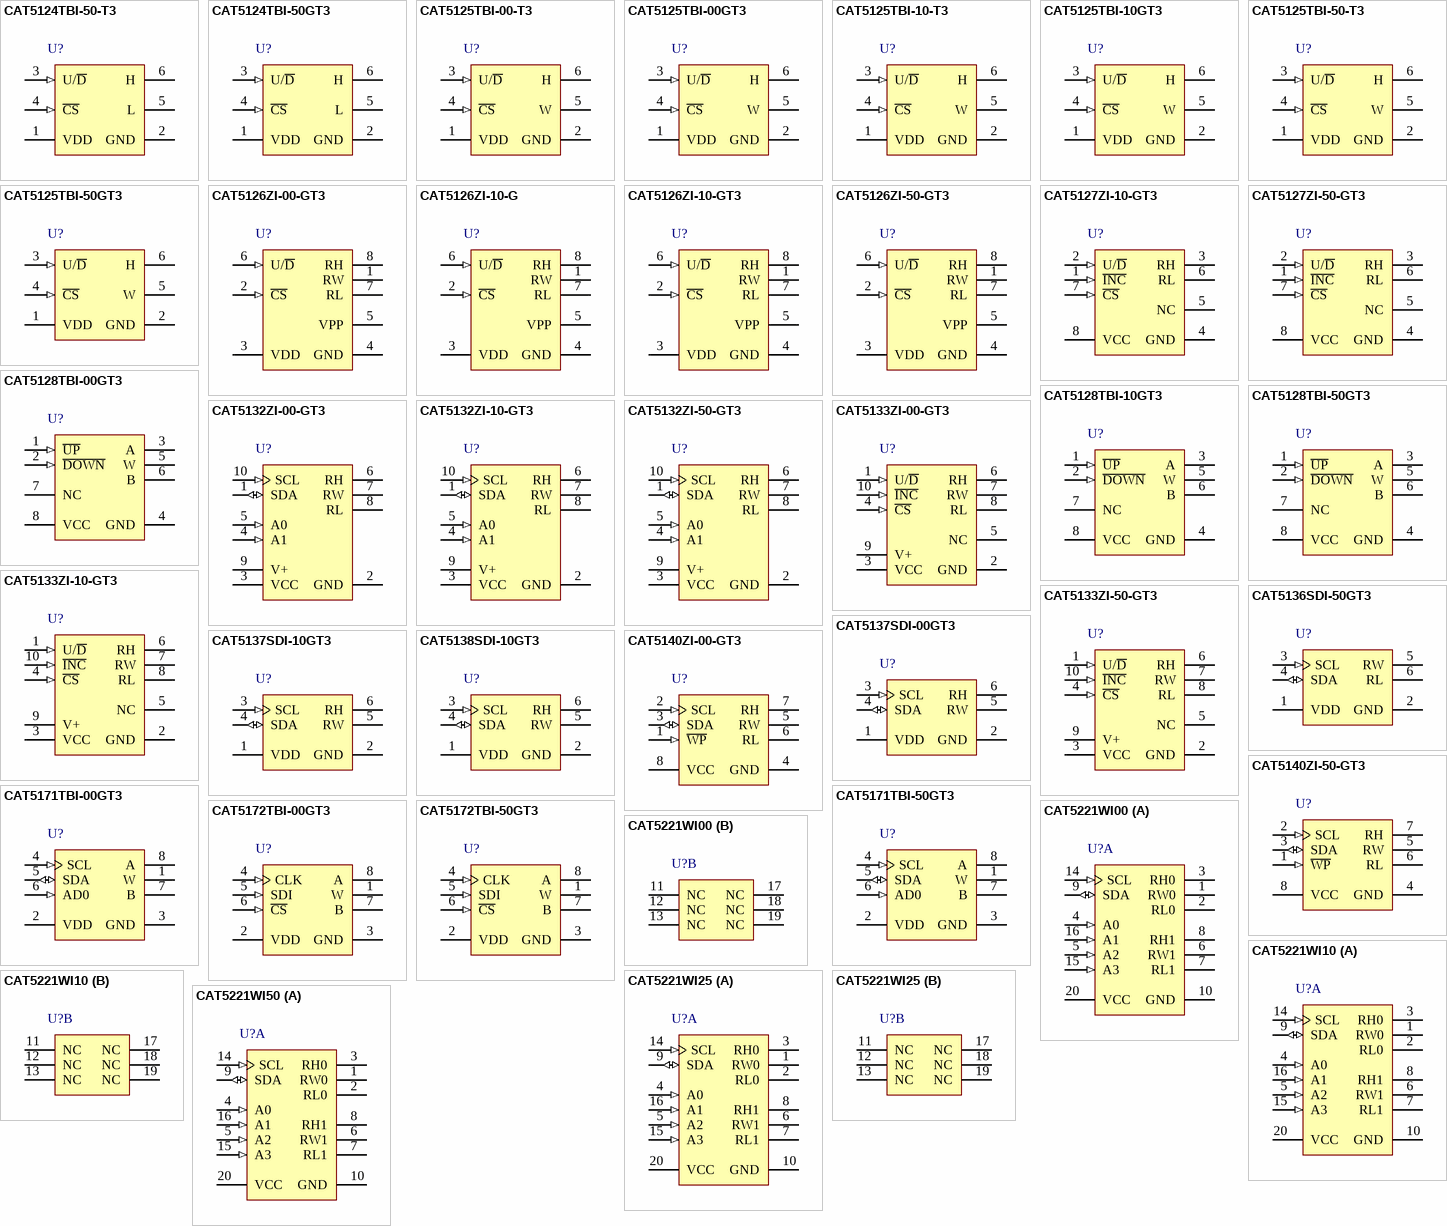
[diagram p3: symbols CAT5124TBI-50-T3 to CAT5221WI50]

## CAT5124TBI-50-T3
designator U?
32 Tap Digital Potentiometer (POT) with 2-Wire Interface, -40 to 85 degC, 6-Pin SOT23, Pb-Free, Tape and Reel; Manufacturer: On Semiconductor; PartNumber: CAT5124TBI-50-T3; # of Pots: 1; # of Taps: 32; Control Interface: Up/Down; VDD Max (V): 5.5; DatasheetVersion: Rev. 13; PackageVersion: Rev. B, 02/2012; PackageReference: SOT23-6-527AJ; PackageDescription: 6-Pin Small Outline Transistor, Body 2.85 x 1.55 mm, Pitch 0.95 mm; Supplier 1: Mouser; Supplier Part Number 1: 698-CAT5124TBI-50-T3; Packing: Tape and Reel; RoHS: TRUE; Type: Rheostat; Mounting Technology: Surface Mount; ComponentLink1Description: Manufacturer URL; ComponentLink1URL: http://www.onsemi.com/; ComponentLink2Description: Datasheet; ComponentLink2URL: http://www.onsemi.com/pub_link/Collateral/CAT5124-D.PDF; ComponentLink3Description: Package Specification; ComponentLink3URL: http://www.onsemi.com/pub_link/Collateral/527AJ.PDF
footprint ONSC-SOT23-6-527AJ_V (SOT23, 6-Leads, Body 3x1.8mm, Pitch 0.95mm)
pins: 1 VDD (power) "Power Supply", 2 GND (power) "Ground", 3 U/~{D} (in) "Up/D\o\w\n\ Control Input. With C\S\ low, a low-to-high transition increments or decrements the wiper position.", 4 ~{CS} (in) "Chip Select Input. A high-to-low C\S\ transition determines the mode: increment if U/D\ is high, or decrement if U/D\ is low.", 5 L "Low Terminal of Resistor", 6 H "High Terminal of Resistor"

## CAT5124TBI-50GT3
designator U?
32 Tap Digital Potentiometer (POT) with 2-Wire Interface, -40 to 85 degC, 6-Pin SOT23, Pb-Free, Tape and Reel; Manufacturer: On Semiconductor; PartNumber: CAT5124TBI-50GT3; # of Pots: 1; # of Taps: 32; Control Interface: Up/Down; VDD Max (V): 5.5; DatasheetVersion: Rev. 13; PackageVersion: Rev. B, 02/2012; PackageReference: SOT23-6-527AJ; PackageDescription: 6-Pin Small Outline Transistor, Body 2.85 x 1.55 mm, Pitch 0.95 mm; Supplier 1: Digi-Key; Supplier Part Number 1: CAT5124TBI-50GT3CT-ND; Supplier 2: Digi-Key; Supplier Part Number 2: CAT5124TBI-50GT3DKR-ND; Supplier 3: Mouser; Supplier Part Number 3: 698-CAT5124TBI-50-G; Packing: Tape and Reel; RoHS: TRUE; Type: Rheostat; Mounting Technology: Surface Mount; ComponentLink1Description: Manufacturer URL; ComponentLink1URL: http://www.onsemi.com/; ComponentLink2Description: Datasheet; ComponentLink2URL: http://www.onsemi.com/pub_link/Collateral/CAT5124-D.PDF; ComponentLink3Description: Package Specification; ComponentLink3URL: http://www.onsemi.com/pub_link/Collateral/527AJ.PDF
footprint ONSC-SOT23-6-527AJ_V (SOT23, 6-Leads, Body 3x1.8mm, Pitch 0.95mm)
pins: 1 VDD (power) "Power Supply", 2 GND (power) "Ground", 3 U/~{D} (in) "Up/D\o\w\n\ Control Input. With C\S\ low, a low-to-high transition increments or decrements the wiper position.", 4 ~{CS} (in) "Chip Select Input. A high-to-low C\S\ transition determines the mode: increment if U/D\ is high, or decrement if U/D\ is low.", 5 L "Low Terminal of Resistor", 6 H "High Terminal of Resistor"

## CAT5125TBI-00-T3
designator U?
32 Tap Digital Potentiometer (POT) with 2-Wire Interface, -40 to 85 degC, 6-Pin SOT23, Pb-Free, Tape and Reel; Manufacturer: On Semiconductor; PartNumber: CAT5125TBI-00-T3; # of Pots: 1; # of Taps: 32; Control Interface: Up/Down; VDD Max (V): 5.5; DatasheetVersion: Rev. 13; PackageVersion: Rev. B, 02/2012; PackageReference: SOT23-6-527AJ; PackageDescription: 6-Pin Small Outline Transistor, Body 2.85 x 1.55 mm, Pitch 0.95 mm; Packing: Tape and Reel; RoHS: TRUE; Type: Potentiometer; Mounting Technology: Surface Mount; ComponentLink1Description: Manufacturer URL; ComponentLink1URL: http://www.onsemi.com/; ComponentLink2Description: Datasheet; ComponentLink2URL: http://www.onsemi.com/pub_link/Collateral/CAT5125-D.PDF; ComponentLink3Description: Package Specification; ComponentLink3URL: http://www.onsemi.com/pub_link/Collateral/527AJ.PDF
footprint ONSC-SOT23-6-527AJ_V (SOT23, 6-Leads, Body 3x1.8mm, Pitch 0.95mm)
pins: 1 VDD (power) "Power Supply", 2 GND (power) "Ground", 3 U/~{D} (in) "Up/D\o\w\n\ Control Input. With C\S\ low, a low-to-high transition increments or decrements the wiper position.", 4 ~{CS} (in) "Chip Select Input. A high-to-low C\S\ transition determines the mode: increment if U/D\ is high, or decrement if U/D\ is low.", 5 W "Wiper Terminal of Resistor", 6 H "High Terminal of Resistor"

## CAT5125TBI-00GT3
designator U?
32 Tap Digital Potentiometer (POT) with 2-Wire Interface, -40 to 85 degC, 6-Pin SOT23, Pb-Free, Tape and Reel; Manufacturer: On Semiconductor; PartNumber: CAT5125TBI-00GT3; # of Pots: 1; # of Taps: 32; Control Interface: Up/Down; VDD Max (V): 5.5; DatasheetVersion: Rev. 13; PackageVersion: Rev. B, 02/2012; PackageReference: SOT23-6-527AJ; PackageDescription: 6-Pin Small Outline Transistor, Body 2.85 x 1.55 mm, Pitch 0.95 mm; Supplier 1: Digi-Key; Supplier Part Number 1: CAT5125TBI-00GT3-ND; Supplier 2: Mouser; Supplier Part Number 2: 863-CAT5125TBI-00GT3; Packing: Tape and Reel; RoHS: TRUE; Type: Potentiometer; Mounting Technology: Surface Mount; ComponentLink1Description: Manufacturer URL; ComponentLink1URL: http://www.onsemi.com/; ComponentLink2Description: Datasheet; ComponentLink2URL: http://www.onsemi.com/pub_link/Collateral/CAT5125-D.PDF; ComponentLink3Description: Package Specification; ComponentLink3URL: http://www.onsemi.com/pub_link/Collateral/527AJ.PDF
footprint ONSC-SOT23-6-527AJ_V (SOT23, 6-Leads, Body 3x1.8mm, Pitch 0.95mm)
pins: 1 VDD (power) "Power Supply", 2 GND (power) "Ground", 3 U/~{D} (in) "Up/D\o\w\n\ Control Input. With C\S\ low, a low-to-high transition increments or decrements the wiper position.", 4 ~{CS} (in) "Chip Select Input. A high-to-low C\S\ transition determines the mode: increment if U/D\ is high, or decrement if U/D\ is low.", 5 W "Wiper Terminal of Resistor", 6 H "High Terminal of Resistor"

## CAT5125TBI-10-T3
designator U?
32 Tap Digital Potentiometer (POT) with 2-Wire Interface, -40 to 85 degC, 6-Pin SOT23, Pb-Free, Tape and Reel; Manufacturer: On Semiconductor; PartNumber: CAT5125TBI-10-T3; # of Pots: 1; # of Taps: 32; Control Interface: Up/Down; VDD Max (V): 5.5; DatasheetVersion: Rev. 13; PackageVersion: Rev. B, 02/2012; PackageReference: SOT23-6-527AJ; PackageDescription: 6-Pin Small Outline Transistor, Body 2.85 x 1.55 mm, Pitch 0.95 mm; Supplier 1: Mouser; Supplier Part Number 1: 698-CAT5125TBI-10-T3; Packing: Tape and Reel; RoHS: TRUE; Type: Potentiometer; Mounting Technology: Surface Mount; ComponentLink1Description: Manufacturer URL; ComponentLink1URL: http://www.onsemi.com/; ComponentLink2Description: Datasheet; ComponentLink2URL: http://www.onsemi.com/pub_link/Collateral/CAT5125-D.PDF; ComponentLink3Description: Package Specification; ComponentLink3URL: http://www.onsemi.com/pub_link/Collateral/527AJ.PDF
footprint ONSC-SOT23-6-527AJ_V (SOT23, 6-Leads, Body 3x1.8mm, Pitch 0.95mm)
pins: 1 VDD (power) "Power Supply", 2 GND (power) "Ground", 3 U/~{D} (in) "Up/D\o\w\n\ Control Input. With C\S\ low, a low-to-high transition increments or decrements the wiper position.", 4 ~{CS} (in) "Chip Select Input. A high-to-low C\S\ transition determines the mode: increment if U/D\ is high, or decrement if U/D\ is low.", 5 W "Wiper Terminal of Resistor", 6 H "High Terminal of Resistor"

## CAT5125TBI-10GT3
designator U?
32 Tap Digital Potentiometer (POT) with 2-Wire Interface, -40 to 85 degC, 6-Pin SOT23, Pb-Free, Tape and Reel; Manufacturer: On Semiconductor; PartNumber: CAT5125TBI-10GT3; # of Pots: 1; # of Taps: 32; Control Interface: Up/Down; VDD Max (V): 5.5; DatasheetVersion: Rev. 13; PackageVersion: Rev. B, 02/2012; PackageReference: SOT23-6-527AJ; PackageDescription: 6-Pin Small Outline Transistor, Body 2.85 x 1.55 mm, Pitch 0.95 mm; Supplier 1: Digi-Key; Supplier Part Number 1: CAT5125TBI-10GT3CT-ND; Supplier 2: Digi-Key; Supplier Part Number 2: CAT5125TBI-10GT3DKR-ND; Supplier 3: Mouser; Supplier Part Number 3: 863-CAT5125TBI-10GT3; Packing: Tape and Reel; RoHS: TRUE; Type: Potentiometer; Mounting Technology: Surface Mount; ComponentLink1Description: Manufacturer URL; ComponentLink1URL: http://www.onsemi.com/; ComponentLink2Description: Datasheet; ComponentLink2URL: http://www.onsemi.com/pub_link/Collateral/CAT5125-D.PDF; ComponentLink3Description: Package Specification; ComponentLink3URL: http://www.onsemi.com/pub_link/Collateral/527AJ.PDF
footprint ONSC-SOT23-6-527AJ_V (SOT23, 6-Leads, Body 3x1.8mm, Pitch 0.95mm)
pins: 1 VDD (power) "Power Supply", 2 GND (power) "Ground", 3 U/~{D} (in) "Up/D\o\w\n\ Control Input. With C\S\ low, a low-to-high transition increments or decrements the wiper position.", 4 ~{CS} (in) "Chip Select Input. A high-to-low C\S\ transition determines the mode: increment if U/D\ is high, or decrement if U/D\ is low.", 5 W "Wiper Terminal of Resistor", 6 H "High Terminal of Resistor"

## CAT5125TBI-50-T3
designator U?
32 Tap Digital Potentiometer (POT) with 2-Wire Interface, -40 to 85 degC, 6-Pin SOT23, Pb-Free, Tape and Reel; Manufacturer: On Semiconductor; PartNumber: CAT5125TBI-50-T3; # of Pots: 1; # of Taps: 32; Control Interface: Up/Down; VDD Max (V): 5.5; DatasheetVersion: Rev. 13; PackageVersion: Rev. B, 02/2012; PackageReference: SOT23-6-527AJ; PackageDescription: 6-Pin Small Outline Transistor, Body 2.85 x 1.55 mm, Pitch 0.95 mm; Packing: Tape and Reel; RoHS: TRUE; Type: Potentiometer; Mounting Technology: Surface Mount; ComponentLink1Description: Manufacturer URL; ComponentLink1URL: http://www.onsemi.com/; ComponentLink2Description: Datasheet; ComponentLink2URL: http://www.onsemi.com/pub_link/Collateral/CAT5125-D.PDF; ComponentLink3Description: Package Specification; ComponentLink3URL: http://www.onsemi.com/pub_link/Collateral/527AJ.PDF
footprint ONSC-SOT23-6-527AJ_V (SOT23, 6-Leads, Body 3x1.8mm, Pitch 0.95mm)
pins: 1 VDD (power) "Power Supply", 2 GND (power) "Ground", 3 U/~{D} (in) "Up/D\o\w\n\ Control Input. With C\S\ low, a low-to-high transition increments or decrements the wiper position.", 4 ~{CS} (in) "Chip Select Input. A high-to-low C\S\ transition determines the mode: increment if U/D\ is high, or decrement if U/D\ is low.", 5 W "Wiper Terminal of Resistor", 6 H "High Terminal of Resistor"

## CAT5125TBI-50GT3
designator U?
32 Tap Digital Potentiometer (POT) with 2-Wire Interface, -40 to 85 degC, 6-Pin SOT23, Pb-Free, Tape and Reel; Manufacturer: On Semiconductor; PartNumber: CAT5125TBI-50GT3; # of Pots: 1; # of Taps: 32; Control Interface: Up/Down; VDD Max (V): 5.5; DatasheetVersion: Rev. 13; PackageVersion: Rev. B, 02/2012; PackageReference: SOT23-6-527AJ; PackageDescription: 6-Pin Small Outline Transistor, Body 2.85 x 1.55 mm, Pitch 0.95 mm; Supplier 1: Digi-Key; Supplier Part Number 1: CAT5125TBI-50GT3-ND; Supplier 2: Mouser; Supplier Part Number 2: N/A; Packing: Tape and Reel; RoHS: TRUE; Type: Potentiometer; Mounting Technology: Surface Mount; ComponentLink1Description: Manufacturer URL; ComponentLink1URL: http://www.onsemi.com/; ComponentLink2Description: Datasheet; ComponentLink2URL: http://www.onsemi.com/pub_link/Collateral/CAT5125-D.PDF; ComponentLink3Description: Package Specification; ComponentLink3URL: http://www.onsemi.com/pub_link/Collateral/527AJ.PDF
footprint ONSC-SOT23-6-527AJ_V (SOT23, 6-Leads, Body 3x1.8mm, Pitch 0.95mm)
pins: 1 VDD (power) "Power Supply", 2 GND (power) "Ground", 3 U/~{D} (in) "Up/D\o\w\n\ Control Input. With C\S\ low, a low-to-high transition increments or decrements the wiper position.", 4 ~{CS} (in) "Chip Select Input. A high-to-low C\S\ transition determines the mode: increment if U/D\ is high, or decrement if U/D\ is low.", 5 W "Wiper Terminal of Resistor", 6 H "High Terminal of Resistor"

## CAT5126ZI-00-GT3
designator U?
One-Time Digital 32 Tap Potentiometer (POT), -40 to 85 degC, 8-Pin MSOP, Pb-Free, Tape and Reel; Manufacturer: On Semiconductor; PartNumber: CAT5126ZI-00-GT3; # of Pots: 1; # of Taps: 32; Control Interface: Up/Down; VDD Max (V): 5.5; DatasheetVersion: Rev. 4; PackageVersion: Rev. O, 12/2008; PackageReference: MSOP-8-846AD-01_O; PackageDescription: 8-Pin Small Outline Package, Body 3 x 3 mm, Pitch 0.65 mm; Supplier 1: Digi-Key; Supplier Part Number 1: CAT5126ZI-00-GT3-ND; Supplier 2: Mouser; Supplier Part Number 2: 698-CAT5126ZI-00-G; Packing: Tape and Reel; RoHS: TRUE; Type: Potentiometer; Mounting Technology: Surface Mount; Code_JEDEC: MO-187; ComponentLink1Description: Manufacturer URL; ComponentLink1URL: http://www.onsemi.com/; ComponentLink2Description: Datasheet; ComponentLink2URL: http://www.onsemi.com/pub_link/Collateral/CAT5126-D.PDF; ComponentLink3Description: Package Specification; ComponentLink3URL: http://www.onsemi.com/pub_link/Collateral/846AD.PDF
footprint ONSC-MSOP-8-846AD-01_N (SOP, 8-Leads, Body 3.1x3.1mm, Pitch 0.65mm, IPC Medium Density)
footprint ONSC-MSOP-8-846AD-01_L (SOP, 8-Leads, Body 3.1x3.1mm, Pitch 0.65mm, IPC High Density)
footprint ONSC-MSOP-8-846AD-01_M (SOP, 8-Leads, Body 3.1x3.1mm, Pitch 0.65mm, IPC Low Density)
pins: 1 RW "Wiper Connection", 2 ~{CS} (in) "Chip-Select Input. A high-to-low C\S\ transition determines the mode: increment if U/D\ is high, or decrement if U/D\ is low. C\S\ is also used for one-time programming (see the One-Time Programming section).", 3 VDD (power) "Power?Supply Voltage", 4 GND (power) "Ground", 5 VPP "Programming Voltage for One-Time Programming. Connect VPP to 10 V supply when one-time programming the device. For normal operation, connect to ground or let float.", 6 U/~{D} (in) "Up/Down Control Input. With C\S\ low, a low-to-high transition increments or decrements the wiper position.", 7 RL "Low Terminal of Resistor", 8 RH "High Terminal of Resistor"